# Altium footprint library Evb board STM32H7 Fullcolor V1l0.PcbLib: 23 footprints (part 2 of 2)
Each footprint in its own frame and in the unit in brackets; x right, y up, seen from the top. Pads: shape width x height; smd on the part's side, far side on the other; paste and mask are expansions set on the pad; w line width, h text height; cw(c..) or ccw(c..) is an arc to the next point about the centre after c.
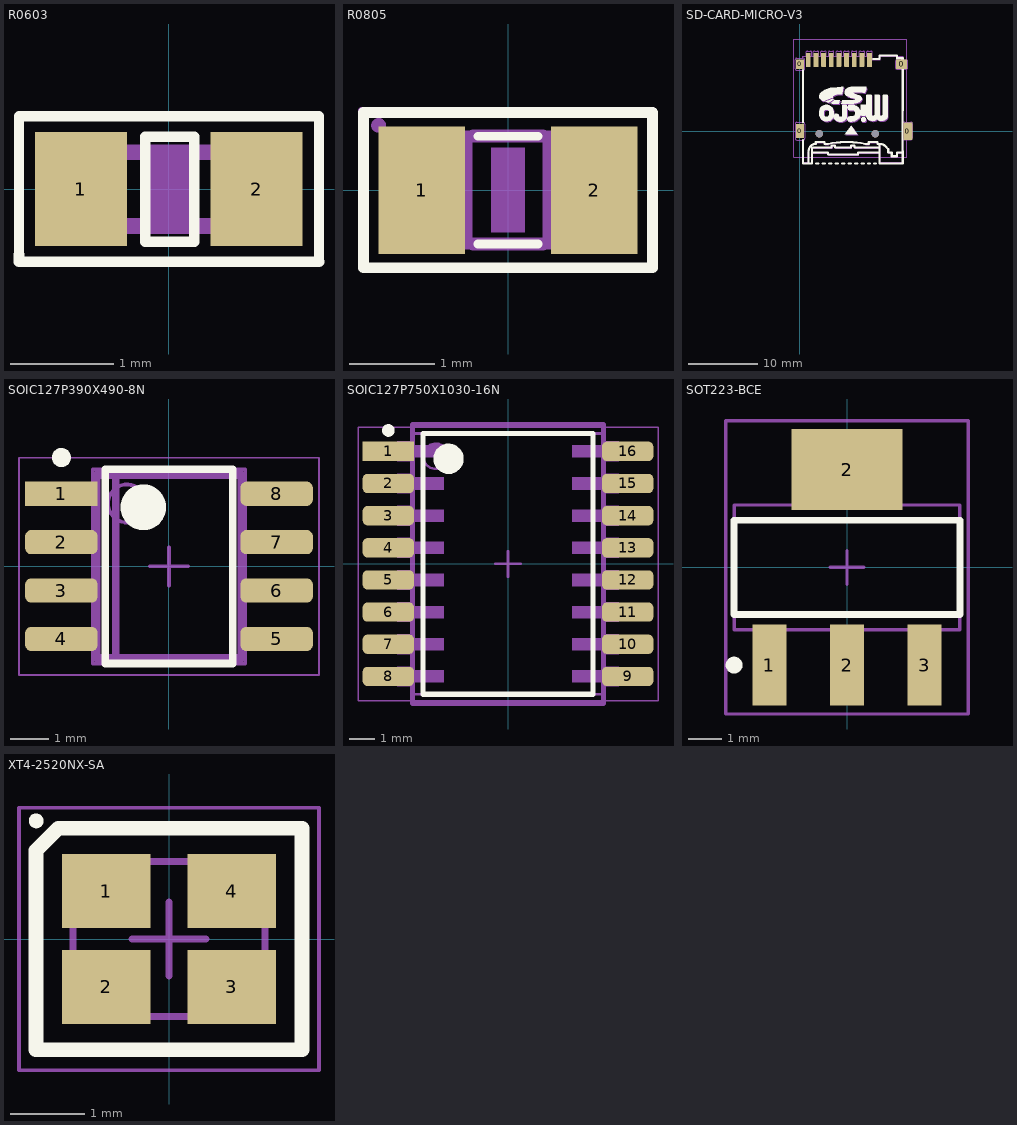
[diagram p1: the footprints below, top view; thin cyan lines are the x and y axes]

## R0603 [mil] "RES 0603/1608"
height 47.24
pads (2):
  rect 35x43.31 smd: 1(-33.46,0) 2(33.46,0)
Top Overlay:
  lines w3.94: -57,-25 -57,27.8 57.2,27.8 57.2,-27.7 ; -9,-20 -9,20 9.7,20 9.7,-20 -9,-20
  lines w4: -57,-25 -57,-27.7 57.2,-27.7
Mechanical 6:
  rectangle: -7.87,-15.75 7.87,15.75
Mechanical 16:
  rectangle: -33,-17 -17,17
  rectangle: 17,-17 33,17
  lines w6: -17.01,-14.02 17.01,-14.02 ; -17.01,14.02 17.01,14.02
3D body "User Library-SMD RESISTOR-1 (3).step": height 16.73, standoff -0.98, extent -31.5,-15.74 31.5,15.75

## R0805 [mil] "RES 0805/2012"
height 336.22
pads (2):
  rect 40x59.06 smd: 1(-40,0) 2(40,0)
Top Overlay:
  lines w4: -14,-25 14,-25 ; -14,25 14,25
  lines w5: -67,-36 67,-36 67,36 -67,36 -67,-36
Mechanical 6:
  rectangle: -7.87,-19.69 7.87,19.69
Mechanical 16:
  rectangle: -42,-27.5 -16.41,27.62
  rectangle: 16,-27.5 41.59,27.62
  lines w6: -16.14,-25 16.14,-25 ; -16.14,25 16.14,25
Mechanical 29:
  circle w4: c-60,30 r1.41
  lines w3: -68,-36 -68,37 67,37 67,-36 -68,-36
  text ".Designator" at -59,-7 h25
3D body "User Library-CR2012-0805.step": height 24.23, standoff 0.6, extent -39.37,-24.61 39.37,24.6

## SD-CARD-MICRO-V3 [mm] "SD-CARD-MICRO-V3"
height 1.7
pads (13):
  rrect10% 1.2x1.4 smd: 0(0,9.6)
  rrect10% 1.2x2 smd: 0(0,0)
  rrect10% 1.6x1.4 smd: 0(14.6,9.6)
  rrect10% 1.3x2.5 smd: 0(15.5,0)
  rrect10% 0.7x2 smd: 1(10,10.238) 2(8.9,10.238) 3(7.8,10.238) 4(6.7,10.238) 5(5.6,10.238) 6(4.5,10.238) 7(3.4,10.238)
  rrect10% 0.7x2 smd mask+0.1: 8(2.3,10.238) 9(1.2,10.238)
via 10.8,-0.4 diameter 1.1 hole 1.1
via 2.794,-0.4 diameter 1.1 hole 1.1
Top Overlay:
  drawing of 72 lines, arcs and shapes, not listed
Mechanical 1:
  drawing of 137 lines, arcs and shapes, not listed
  text "DAT3" at 8.534,9.002 h0.7
  text "CMD" at 7.391,9.002 h0.7
  text "VDD" at 6.375,9.002 h0.7
  text "CLK" at 5.232,9.002 h0.7
  text "VSS" at 4.216,9.002 h0.7
  text "DAT0" at 3.073,9.002 h0.7
  text "DAT1" at 1.93,9.002 h0.7
  text "CD" at 0.914,9.002 h0.7
  text "DAT2" at 9.577,9.102 h0.7
Mechanical 15:
  lines w0.15: -0.906,-3.787 15.375,-3.787 15.375,13.231 -0.906,13.231 -0.906,-3.787
3D body "MEM2055-00-190-01-A_revG.step": height 1.95, standoff -0.5, extent -0.253,-4.455 15.747,10.795
3D body "Micro_SD.step": height 1.8, standoff 0.82, extent 1.231,-5.969 12.231,9.031

## SOIC127P390X490-8N [mm] "SOIC, 8-Leads, Body 4.90x3.90mm, Pitch 1.27mm, IPC Medium Density"
height 1.75
pads (8):
  rect 1.905x0.635 smd: 1(-2.825,1.905)
  rrect50% 1.905x0.635 smd: 2(-2.825,0.635) 3(-2.825,-0.635) 4(-2.825,-1.905) 5(2.825,-1.905) 6(2.825,-0.635) 7(2.825,0.635) 8(2.825,1.905)
Top Overlay:
  circle w0.6: c-0.675,1.55 r0.3
  circle w0.25: c-2.825,2.855 r0.125
  lines w0.2: -1.675,-2.55 1.675,-2.55 1.675,2.55 -1.675,2.55 -1.675,-2.55
Mechanical 13:
  circle w0.1: c-1.1,1.65 r0.5
  lines w0.1: -2,-2.55 2,-2.55 2,2.55 -2,2.55 -2,-2.55
Mechanical 15:
  lines w0.05: -3.937,-2.85 3.937,-2.85 3.937,2.85 -3.937,2.85 -3.937,-2.85
  lines w0.1: -0.5,0 0.5,0 ; 0,-0.5 0,0.5
Mechanical 16:
  lines w0.203: -1.4,-2.4 -1.4,2.4 ; -1.4,-2.4 -1.9,-2.4 -1.9,2.4 -1.4,2.4 ; -1.4,-2.4 1.9,-2.4 1.9,2.4 -1.4,2.4
Mechanical 29:
  text ".Designator" at -3,0.5 h1.5
3D body "CircuitWorks-SO-8 (PIC12FXXX).step": height 1.6, standoff 0, extent -2.995,-2.45 2.995,2.45

## SOIC127P750X1030-16N [mil] "SOIC, 16-Leads, Body 10.30x7.50mm, Pitch 1.27mm, IPC Medium Density"
height 94.49
pads (16):
  rect 80x30 smd: 1(-186.02,175)
  rrect50% 80x30 smd: 2(-186.02,125) 3(-186.02,75) 4(-186.02,25) 5(-186.02,-25) 6(-186.02,-75) 7(-186.02,-125) 8(-186.02,-175) 9(186.02,-175) 10(186.02,-125) 11(186.02,-75) 12(186.02,-25) 13(186.02,25) 14(186.02,75) 15(186.02,125) 16(186.02,175)
Top Overlay:
  circle w23.62: c-92.52,163.39 r11.81
  circle w9.84: c-186.02,207.48 r4.92
  lines w7.87: -131.89,-202.76 131.89,-202.76 131.89,202.76 -131.89,202.76 -131.89,-202.76
Mechanical 13:
  circle w3.94: c-112.2,167.32 r19.68
  lines w3.94: -147.64,-202.76 147.64,-202.76 147.64,202.76 -147.64,202.76 -147.64,-202.76
Mechanical 15:
  lines w1.97: -233.27,-212.6 -233.27,212.6 233.27,212.6 233.27,-212.6 -233.27,-212.6
  lines w3.94: -19.68,0 19.69,0 ; 0,-19.68 0,19.68
Mechanical 16:
  region: 144.49,-184.84 144.49,-165.16 99.61,-165.16 99.61,-184.84
  region: 172.44,-190.75 172.44,-159.25 152.36,-159.25 152.36,-190.75
  region: 144.49,-134.84 144.49,-115.16 99.61,-115.16 99.61,-134.84
  region: 172.44,-140.75 172.44,-109.25 152.36,-109.25 152.36,-140.75
  region: 144.49,-84.84 144.49,-65.16 99.61,-65.16 99.61,-84.84
  region: 172.44,-90.75 172.44,-59.25 152.36,-59.25 152.36,-90.75
  region: 144.49,-34.84 144.49,-15.16 99.61,-15.16 99.61,-34.84
  region: 172.44,-40.75 172.44,-9.25 152.36,-9.25 152.36,-40.75
  region: 144.49,15.16 144.49,34.84 99.61,34.84 99.61,15.16
  region: 172.44,9.25 172.44,40.75 152.36,40.75 152.36,9.25
  region: 144.49,65.16 144.49,84.84 99.61,84.84 99.61,65.16
  region: 172.44,59.25 172.44,90.75 152.36,90.75 152.36,59.25
  region: 144.49,115.16 144.49,134.84 99.61,134.84 99.61,115.16
  region: 172.44,109.25 172.44,140.75 152.36,140.75 152.36,109.25
  region: 144.49,165.16 144.49,184.84 99.61,184.84 99.61,165.16
  region: 172.44,159.25 172.44,190.75 152.36,190.75 152.36,159.25
  region: -99.61,165.16 -99.61,184.84 -144.49,184.84 -144.49,165.16
  region: -152.36,159.25 -152.36,190.75 -172.44,190.75 -172.44,159.25
  region: -99.61,115.16 -99.61,134.84 -144.49,134.84 -144.49,115.16
  region: -152.36,109.25 -152.36,140.75 -172.44,140.75 -172.44,109.25
  region: -99.61,65.16 -99.61,84.84 -144.49,84.84 -144.49,65.16
  region: -152.36,59.25 -152.36,90.75 -172.44,90.75 -172.44,59.25
  region: -99.61,15.16 -99.61,34.84 -144.49,34.84 -144.49,15.16
  region: -152.36,9.25 -152.36,40.75 -172.44,40.75 -172.44,9.25
  region: -99.61,-34.84 -99.61,-15.16 -144.49,-15.16 -144.49,-34.84
  region: -152.36,-40.75 -152.36,-9.25 -172.44,-9.25 -172.44,-40.75
  region: -99.61,-84.84 -99.61,-65.16 -144.49,-65.16 -144.49,-84.84
  region: -152.36,-90.75 -152.36,-59.25 -172.44,-59.25 -172.44,-90.75
  region: -99.61,-134.84 -99.61,-115.16 -144.49,-115.16 -144.49,-134.84
  region: -152.36,-140.75 -152.36,-109.25 -172.44,-109.25 -172.44,-140.75
  region: -99.61,-184.84 -99.61,-165.16 -144.49,-165.16 -144.49,-184.84
  region: -152.36,-190.75 -152.36,-159.25 -172.44,-159.25 -172.44,-190.75
  lines w8: -148.43,-216.93 148.43,-216.93 148.43,216.54 -148.43,216.54 -148.43,-216.93
Mechanical 29:
  text ".Designator" at -118.11,19.68 h59.06
3D body "User Library-SO-16W.STEP": height 97.64, standoff 0, extent -202.95,-203.35 202.95,203.34

## SOT223-BCE [mm] "mounted package with increased heatsink; 4  leads"
height 1.2
pads (4):
  rect 1x2.4 smd: 1(-2.3,-2.9) 2(0,-2.9) 3(2.3,-2.9)
  rect 3.3x2.4 smd: 2(0,2.9)
Top Overlay:
  circle w0.25: c-3.35,-2.9 r0.125
  lines w0.2: -3.35,-1.4 -3.35,1.4 3.35,1.4 3.35,-1.4 -3.35,-1.4
Mechanical 13:
  lines w0.1: -3.35,-1.85 -3.35,1.85 3.35,1.85 3.35,-1.85 -3.35,-1.85
Mechanical 15:
  lines w0.1: -0.5,0 0.5,0 ; 0,-0.5 0,0.5 ; -3.6,-4.35 -3.6,4.35 3.6,4.35 3.6,-4.35 -3.6,-4.35
3D body "SW3DPS-SOT-223-DEFAULT.step": height 1.68, standoff 0, extent -3.25,-3.556 3.25,3.404

## XT4-2520NX-SA [mm] "Crystal, 4-Leads, Body 2.00x2.50mm, Pitch 1.70mm, IPC Medium Density"
height 0.5
pads (4):
  rect 1.2x1 smd: 1(-0.85,0.65) 2(-0.85,-0.65) 3(0.85,-0.65) 4(0.85,0.65)
Top Overlay:
  circle w0.1: c-1.8,1.6 r0.05
  lines w0.2: -1.8,-1.5 -1.8,1.2 -1.5,1.5 1.8,1.5 1.8,-1.5 -1.8,-1.5
Mechanical 13:
  lines w0.1: -1.3,-1.05 1.3,-1.05 1.3,1.05 -1.3,1.05 -1.3,-1.05
Mechanical 15:
  lines w0.05: -2.032,-1.778 2.032,-1.778 2.032,1.778 -2.032,1.778 -2.032,-1.778
  lines w0.1: -0.5,0 0.5,0 ; 0,-0.5 0,0.5
3D body "NDK NX2520SA.STEP": height 0.5, standoff 0, extent -1.26,-1.01 1.26,1.01